# Altium footprint library SnapEDApcb.PcbLib: 1 footprints
Each footprint in its own frame and in the unit in brackets; x right, y up, seen from the top. Pads: shape width x height; smd on the part's side, far side on the other; paste and mask are expansions set on the pad; w line width, h text height; cw(c..) or ccw(c..) is an arc to the next point about the centre after c.
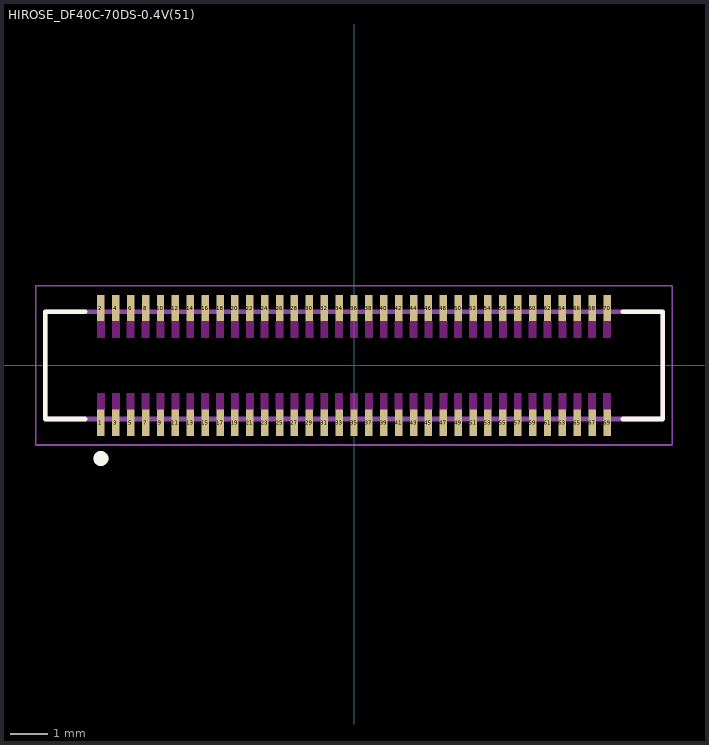
[diagram p0: the footprint, top view; thin cyan lines are the x and y axes]

## HIROSE_DF40C-70DS-0.4V(51) [mm]
pads (70):
  rect 0.2x0.7 smd paste-1: 1(-6.8,-1.54) 2(-6.8,1.54) 3(-6.4,-1.54) 4(-6.4,1.54) 5(-6,-1.54) 6(-6,1.54) 7(-5.6,-1.54) 8(-5.6,1.54) 9(-5.2,-1.54) 10(-5.2,1.54) 11(-4.8,-1.54) 12(-4.8,1.54) 13(-4.4,-1.54) 14(-4.4,1.54) 15(-4,-1.54) 16(-4,1.54) 17(-3.6,-1.54) 18(-3.6,1.54) 19(-3.2,-1.54) 20(-3.2,1.54) 21(-2.8,-1.54) 22(-2.8,1.54) 23(-2.4,-1.54) 24(-2.4,1.54) 25(-2,-1.54) 26(-2,1.54) 27(-1.6,-1.54) 28(-1.6,1.54) 29(-1.2,-1.54) 30(-1.2,1.54) 31(-0.8,-1.54) 32(-0.8,1.54) 33(-0.4,-1.54) 34(-0.4,1.54) 35(0,-1.54) 36(0,1.54) 37(0.4,-1.54) 38(0.4,1.54) 39(0.8,-1.54) 40(0.8,1.54) 41(1.2,-1.54) 42(1.2,1.54) 43(1.6,-1.54) 44(1.6,1.54) 45(2,-1.54) 46(2,1.54) 47(2.4,-1.54) 48(2.4,1.54) 49(2.8,-1.54) 50(2.8,1.54) 51(3.2,-1.54) 52(3.2,1.54) 53(3.6,-1.54) 54(3.6,1.54) 55(4,-1.54) 56(4,1.54) 57(4.4,-1.54) 58(4.4,1.54) 59(4.8,-1.54) 60(4.8,1.54) 61(5.2,-1.54) 62(5.2,1.54) 63(5.6,-1.54) 64(5.6,1.54) 65(6,-1.54) 66(6,1.54) 67(6.4,-1.54) 68(6.4,1.54) 69(6.8,-1.54) 70(6.8,1.54)
Top Overlay:
  circle w0.2: c-6.8,-2.5 r0.1
  lines w0.127: -7.22,-1.44 -8.3,-1.44 -8.3,1.44 -7.22,1.44 ; 7.22,-1.44 8.3,-1.44 8.3,1.44 7.22,1.44
Top Paste:
  drawing of 70 lines, arcs and shapes, not listed
Keep-Out Layer:
  drawing of 140 lines, arcs and shapes, not listed
Mechanical 13:
  circle w0.2: c-6.8,-2.5 r0.1
  lines w0.127: -8.3,-1.44 -8.3,1.44 8.3,1.44 8.3,-1.44 -8.3,-1.44
Mechanical 15:
  lines w0.05: -8.55,-2.14 -8.55,2.14 8.55,2.14 8.55,-2.14 -8.55,-2.14